# EAGLE library part BMP180 (library Pinoccio)
Digital Pressure Sensor - Bosch
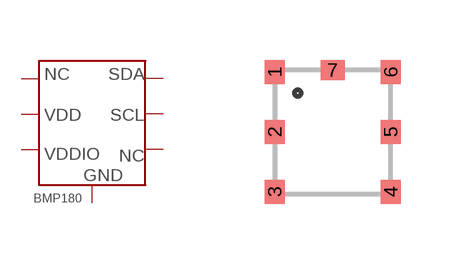
[diagram p25: symbol with the pads of BMP180; footprint BMP180]

Designator prefix -

## BMP180  [BMP180]
1  NC  nc
2  VDD  pwr
3  VDDIO  pwr
4  NC$  nc
5  SCL  in
6  SDA
7  GND  pwr

## Footprint BMP180 (pad centres in mm)
Digital Pressure Sensor - Bosch
smd 0.5 x 0.6: 1 0.35,3.4; 2 0.35,1.9; 3 0.35,0.4; 4 3.25,0.4; 5 3.25,1.9; 6 3.25,3.4
smd 0.6 x 0.5: 7 1.8,3.45